# EAGLE library part CA3080 (library OTAs)
Single operational transconductance amplifier - 2 MHz open-loop bandwidth - 50 V/µs slew rate - Extended gM linearity over 3 decades - No output buffers provided Originally developed by RCA. Manufactured by Intersil
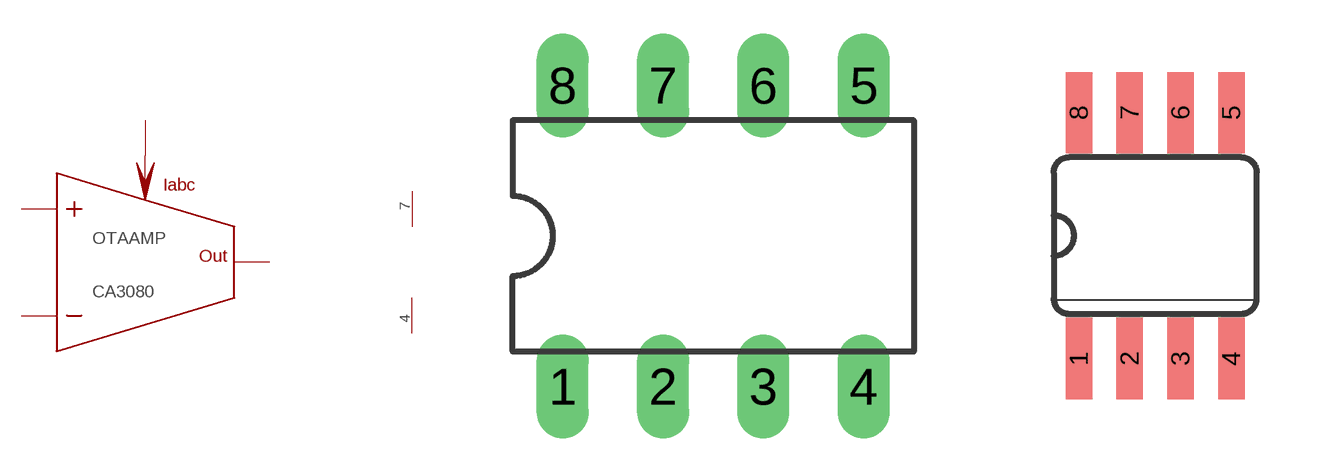
[diagram p5: symbol with the pads of DIP08; footprints DIP08, SO08]

Designator prefix OTA; gates AMP=OTA-NO-DIODES PWR=POWERPIN

## CA3080E  [DIP08]
2  AMP:IN-
3  AMP:IN+
4  PWR:VEE  pwr
5  AMP:IABC
6  AMP:OUT
7  PWR:VCC  pwr

## CA3080M  [SO08]
Pads as for DIP08

## Footprint DIP08 (pad centres in mm)
Dual In Line Package
drill 0.813 pad 1.27 long: 1 -3.81,-3.81; 2 -1.27,-3.81; 3 1.27,-3.81; 4 3.81,-3.81; 5 3.81,3.81; 6 1.27,3.81; 7 -1.27,3.81; 8 -3.81,3.81

## Footprint SO08 (pad centres in mm)
Small Outline package 150 mil
smd 0.66 x 2.032: 1 -1.905,-3.073; 2 -0.635,-3.073; 3 0.635,-3.073; 4 1.905,-3.073; 5 1.905,3.073; 6 0.635,3.073; 7 -0.635,3.073; 8 -1.905,3.073